# Altium footprint library UNCLEAR.PcbLib: 52 footprints (part 1 of 4)
Each footprint in its own frame and in the unit in brackets; x right, y up, seen from the top. Pads: shape width x height; smd on the part's side, far side on the other; paste and mask are expansions set on the pad; w line width, h text height; cw(c..) or ccw(c..) is an arc to the next point about the centre after c.
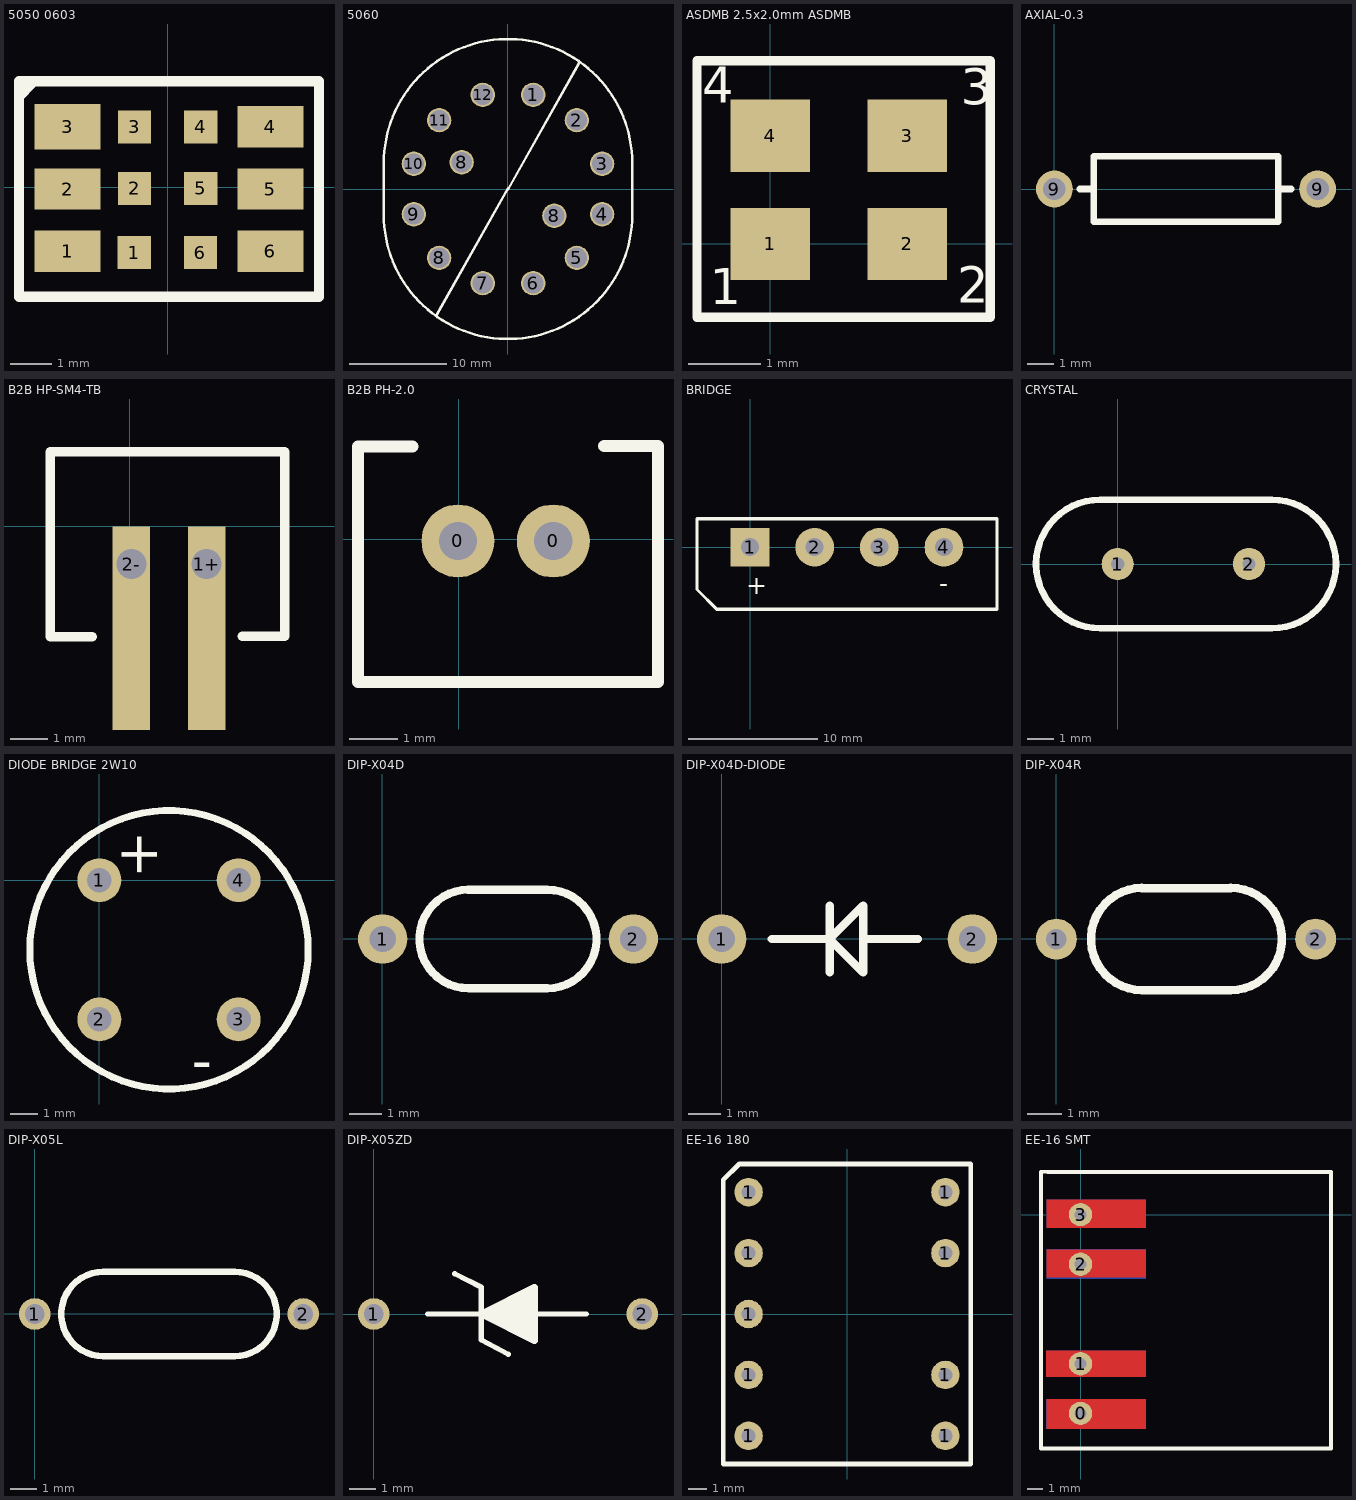
[diagram p0: the footprints below, top view; thin cyan lines are the x and y axes]

## 5050 0603 [mm]
pads (12):
  rect 1.6x1 smd: 1(-2.421,-1.545) 2(-2.421,-0.045) 4(2.479,1.455) 5(2.479,-0.045) 6(2.479,-1.545)
  rect 0.8x0.8 smd: 1(-0.811,-1.583) 2(-0.803,-0.031) 3(-0.803,1.458) 4(0.797,1.458) 5(0.797,-0.031) 6(0.789,-1.583)
  rect 1.6x1.1 smd: 3(-2.421,1.455)
Top Overlay:
  lines w0.25: -3.596,-2.645 -3.596,2.555 3.654,2.555 3.654,-2.645 -3.596,-2.645
  lines w0.254: -3.583,2.213 -3.301,2.495 -3.301,2.535
3D body "User Library-smd_led_5050.STEP": height 1.6, standoff 0, extent -2.601,-2.545 2.699,2.455

## 5060 [mm]
pads (14):
  round 2.5 hole 2.1: 1(2.587,9.66) 2(7.07,7.073) 3(9.659,2.59) 4(9.66,-2.587) 5(7.073,-7.07) 6(2.59,-9.659) 7(-2.587,-9.66) 8(-7.07,-7.073) 8(-4.763,2.75) 8(4.763,-2.75) 9(-9.659,-2.59) 10(-9.66,2.587) 11(-7.073,7.07) 12(-2.59,9.659)
Top Overlay:
  circle w0.254: c0,0 r0.045
  lines w0.254: -7.32,-12.93 0.01,0.07 ; -0.01,-0.05 7.32,12.95 ; -12.749,-2.65 ccw(c0.001,-2.65) 12.751,-2.65 12.751,2.65 ccw(c0.001,2.65) -12.749,2.65 -12.749,-2.65

## ASDMB 2.5x2.0mm ASDMB [mm]
pads (4):
  rect 1.1x1 smd: 1(0,0) 2(1.9,0) 3(1.9,1.5) 4(0,1.5)
Top Overlay:
  lines w0.127: -1.016,-1.016 3.048,-1.016 3.048,2.54 -1.016,2.54 -1.016,-1.016
  text "4" at -0.94,1.956 h0.5
  text "3" at 2.642,1.93 h0.5
  text "2" at 2.591,-0.813 h0.5
  text "1" at -0.838,-0.838 h0.5
3D body "User Library-Oscillator2520-4pol.STEP": height 0.86, standoff 0, extent -0.3,-0.25 2.2,1.75

## AXIAL-0.3 [mm]
pads (2):
  round 1.4 hole 0.85: 9(0,0) 9(10,0)
Top Overlay:
  lines w0.254: 0.966,0 1.439,0 ; 8.527,0 9,0 ; 1.5,-1.25 1.5,1.25 8.5,1.25 8.5,-1.25 1.5,-1.25
3D body "User Library-R-Axial-0_25W-7_62.STEP": height 2.2, standoff -4, extent 0.893,-1.206 9.113,1.2

## B2B HP-SM4-TB [mm]
pads (2):
  rect 1x6 hole 0.8 copper offset 0,-2: 1+(2.05,-1) 2-(0.05,-1)
Top Overlay:
  lines w0.254: -1,-2.94 -2.12,-2.94 -2.12,1.99 4.14,1.99 4.14,-2.93 3,-2.93
3D body "SW3dPS-b2b-ph-ks-1.STEP": height 6, standoff -3, extent -1.907,-2.66 3.992,1.84

## B2B PH-2.0 [mil]
pads (2):
  round 60 hole 31.5: 0(-0.62,-1.41) 0(77.75,-1.42)
Top Overlay:
  lines w10: -37.86,76.34 -82.74,76.34 -82.74,-117.36 163.72,-117.36 163.72,76.73 119.62,76.73
3D body "SW3dPS-b2b-ph-ks-1.STEP": height 236.22, standoff -118.11, extent -76.93,-111.44 155.35,65.73

## BRIDGE [mm] "橋式"
height 19
pads (4):
  rect 3x3 hole 1.4: 1(0,0)
  round 3 hole 1.4: 2(5,0) 3(10,0) 4(15,0)
Top Overlay:
  lines w0.25: -4.1,-3.27 -4.1,2.2 19.1,2.2 19.1,-4.8 -2.57,-4.8 -4.1,-3.27
  text "-" at 14.63,-2.4 h1.4
  text "+" at -0.28,-2.4 h1.4
3D body "BRIDGE.STEP": height 18.75, standoff -4.9, extent -4.075,-4.5 19.125,2.45

## CRYSTAL [mm]
pads (2):
  round 1.2 hole 0.5: 1(0,0) 2(4.9,0)
Top Overlay:
  lines w0.25: -0.65,-2.4 cw(c-0.65,0) -0.65,2.4 5.75,2.4 cw(c5.75,0) 5.75,-2.4 -0.65,-2.4
3D body "User Library-HC-49_LT_THT_16MHz.STEP": height 3.6, standoff -1.99, extent -3.237,-2.314 8.113,2.336

## DIODE BRIDGE 2W10 [mm]
pads (4):
  round 1.6 hole 0.9: 1(-0.001,-0.001) 2(-0.001,-5.081) 3(5.079,-5.081) 4(5.079,-0.001)
Top Overlay:
  circle w0.254: c2.539,-2.541 r5.08
  text "+" at 0.812,1.803 h1.52
  text "-" at 3.378,-7.316 h1.52
3D body "User Library-Diod bridge 2W10.STEP": height 10.05, standoff -25, extent -3.832,-8.856 8.896,3.872

## DIP-X04D [mm]
pads (2):
  round 1.5 hole 0.8: 1(0.006,-0.001) 2(7.626,-0.001)
Top Overlay:
  lines w0.25: 2.596,1.498 5.009,1.498 ; 2.622,1.501 ccw(c2.622,0.001) 2.622,-1.499 5.009,-1.499 ; 5.006,-1.501 ccw(c5.006,-0.001) 5.006,1.499

## DIP-X04D-DIODE [mm]
pads (2):
  round 1.5 hole 0.8: 1(0,-0.001) 2(7.62,-0.001)
Top Overlay:
  lines w0.25: 1.524,-0.001 3.25,-0.001 ; 4.325,-0.001 5.969,-0.001
  lines w0.254: 3.284,-1.017 3.284,-0.001 ; 3.284,1.015 3.284,-0.001 ; 3.284,-0.001 4.3,1.015 4.3,-1.017 3.284,-0.001

## DIP-X04R [mm]
pads (2):
  round 1.2 hole 0.6: 1(0,-0.002) 2(7.62,-0.002)
Top Overlay:
  lines w0.25: 2.515,1.497 5.131,1.497 ; 2.515,1.499 ccw(c2.515,-0.001) 2.515,-1.5 5.106,-1.5 ; 5.131,-1.5 ccw(c5.131,-0.001) 5.131,1.499

## DIP-X05L [mm]
pads (2):
  round 1.2 hole 0.75: 1(0.001,-0.002) 2(10.161,-0.002)
Top Overlay:
  lines w0.25: 2.601,-1.602 cw(c2.601,-0.002) 2.601,1.598 7.561,1.598 cw(c7.561,-0.002) 7.561,-1.602 2.601,-1.602

## DIP-X05ZD [mm]
pads (2):
  round 1.2 hole 0.75: 1(0,0) 2(10.16,0)
Top Overlay:
  lines w0.2: 2.032,0 8.056,0 ; 3.06,1.525 4.06,1.025 ; 4.06,-0.975 5.085,-1.525 ; 4.064,-0.984 4.064,1.016
  lines w0.254: 4.585,0.125 5.601,0.125 ; 4.61,-0.15 5.626,-0.15 ; 4.785,0.275 5.801,0.275 ; 4.835,-0.3 5.851,-0.3 ; 5.185,-0.541 5.185,0.475 ; 5.385,-0.616 5.385,0.4 ; 5.485,-0.4 5.485,0.616 ; 5.585,-0.691 5.585,0.325 ; 5.71,-0.225 5.71,0.791 ; 5.735,-0.741 5.735,0.275 ; 5.86,-0.175 5.86,0.841 ; 5.91,-0.766 5.91,0.25 ; 4.064,0 6.096,1.016 6.096,-1.016 4.064,0

## EE-16 180 [mil]
height 295.28
pads (9):
  round 60 hole 30: 1(-206.69,-255.91) 1(-206.69,-127.95) 1(-206.69,0) 1(-206.69,127.95) 1(-206.69,255.91) 1(206.69,-255.91) 1(206.69,-127.95) 1(206.69,127.95) 1(206.69,255.91)
Top Overlay:
  lines w10: -259.84,-314.96 259.84,-314.96 259.84,314.96 -226.38,314.96 -259.84,281.5 -259.84,-314.96

## EE-16 SMT [mil]
pads (4):
  round 60 hole 30: 0(0,-511.81) 1(0,-383.86) 2(0,-127.95) 3(0,0)
Top Layer:
  region: 168.19,-162.09 168.19,-89.61 -87.99,-89.61 -87.99,-162.09
  region: 168.19,-34.13 168.19,38.35 -87.99,38.35 -87.99,-34.13
  region: 168.19,-417.6 168.19,-350.24 -88.39,-350.24 -88.39,-417.6
  region: 168.5,-552.2 168.5,-474.72 -88.07,-474.72 -88.07,-552.2
Bottom Layer:
  region: 168.19,-34.13 168.19,38.35 -87.99,38.35 -87.99,-34.13
  region: 168.19,-165.31 168.19,-88.07 -87.2,-88.07 -87.2,-165.31
  region: 168.19,-552.44 168.19,-474.96 -88.39,-474.96 -88.39,-552.44
  region: 168.19,-417.6 168.19,-350.24 -88.39,-350.24 -88.39,-417.6
Top Overlay:
  lines w10: -83.33,110.05 645.12,110.05 645.12,-602.06 -102.09,-602.06 -102.09,110.23 -48.85,110.23
3D body "User Library-EE-16A.STEP": height 627.95, standoff 1.97, extent -186.79,-602.24 641.95,94.61